# EAGLE library part MAX5139 (library DAC)
The MAX5138/MAX5139 are a family of single-channel pin-compatible and software-compatible 16-bit and 12- bit DACs. The MAX5138/MAX5139 are low-power, 16- bit/12-bit, buffered voltage-output, high-linearity DACs. They use a precision internal reference or a precision external reference for rail-to-rail operation. The MAX5138/MAX5139 accept a wide +2.7V to +5.25V supply-voltage range to accommodate most low-power and low-voltage applications. These devices accept a 3-wire SPI-/QSPITM-/MICROWIRE®-/DSP-compatible serial interface to save board space and reduce the complexity of optically isolated and transformer-isolated applications. The digital interface’s double-buffered hardware and software LDAC provide simultaneous output update. The serial interface features a READY output for easy daisy-chaining of several MAX5138/MAX5139 devices and/or other compatible devices. The MAX5138/MAX5139 include a hardware input to reset the DAC outputs to zero or midscale upon power-up or reset, providing additional safety for applications that drive valves or other transducers that need to be off during power-up. The high linearity of the DACs makes these devices ideal for precision control and instrumentation applications. The MAX5138/MAX5139 are available in an ultra-small (3mm x 3mm), 16-pin TQFN package and are specified over the -40°C to +105°C extended industrial temperature range
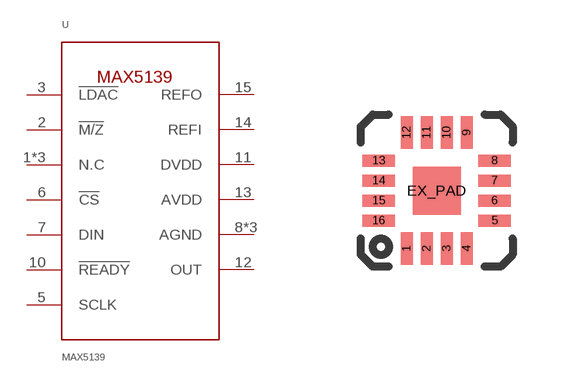
[diagram p1: symbol with the pads of TQFN-16(3X3); footprint TQFN-16(3X3)]

Designator prefix U

## MAX5139GTE+  [TQFN-16(3X3)]
1  N.C  nc
2  !M/Z!
3  !LDAC!
4  N.C  nc
5  SCLK
6  !CS!
7  DIN
8  AGND  pwr
9  N.C  nc
10  !READY!
11  DVDD  pwr
12  OUT  pwr
13  AVDD  pwr
14  REFI  pwr
15  REFO  pwr
16  AGND  pwr
EX_PAD  AGND  pwr

## Footprint TQFN-16(3X3) (pad centres in mm)
smd 0.3 x 0.8: 1 -0.75,-1.45; 2 -0.25,-1.45; 3 0.25,-1.45; 4 0.75,-1.45; 9 0.75,1.45; 10 0.25,1.45; 11 -0.25,1.45; 12 -0.75,1.45
smd 0.8 x 0.3: 5 1.45,-0.75; 6 1.45,-0.25; 7 1.45,0.25; 8 1.45,0.75; 13 -1.45,0.75; 14 -1.45,0.25; 15 -1.45,-0.25; 16 -1.45,-0.75
smd 1.2 x 1.2: EX_PAD 0,0